# Altium integrated library PTS810SJK250SMTRLFS.IntLib: 1 symbol
Pins are listed as number, name and electrical type; pins without a type are passive.

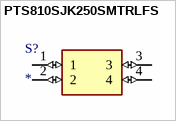
[diagram p0: symbol PTS810SJK250SMTRLFS]

## PTS810SJK250SMTRLFS
designator S?
Tactile Switch SPST-NO Top Actuated Surface Mount; MF: C&K; MP: PTS810 SJK 250 SMTR LFS; SnapEDA_Link: https://www.snapeda.com/parts/PTS810%20SJK%20250%20SMTR%20LFS/C%2526K/view-part/?ref=snap; Package: None; Value: *; Check_prices: https://www.snapeda.com/parts/PTS810%20SJK%20250%20SMTR%20LFS/C%2526K/view-part/?ref=eda
footprint PTS810SJG250SMTRLFS
pins: 1 (io), 2 (io), 3 (io), 4 (io)